# EAGLE library part TIYN2313 (library avrs)
MICROCONTROLLER 2 Kbytes FLASH 128 bytes SRAM 128 bytes EEPROM UART
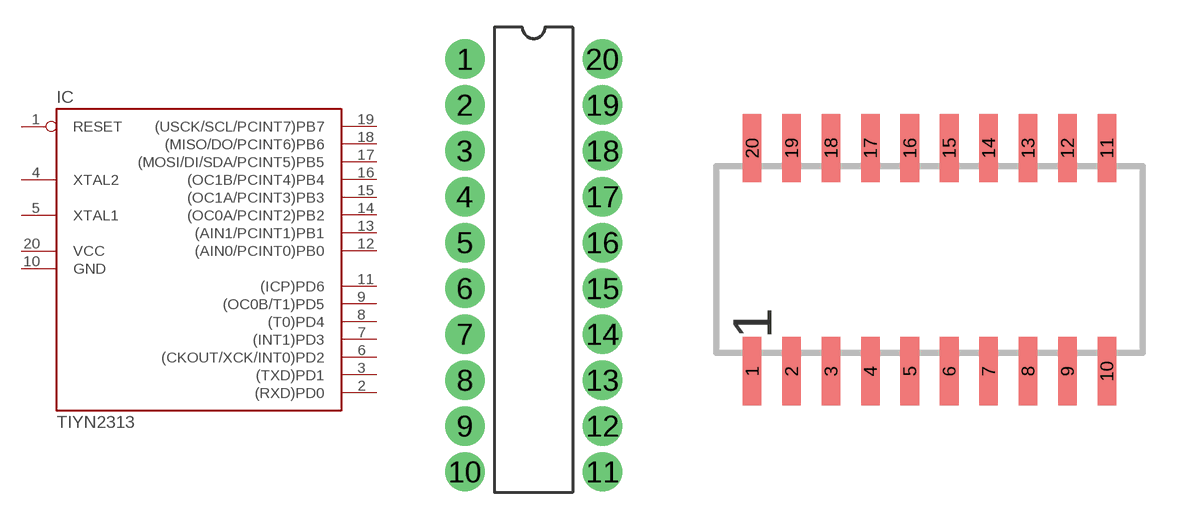
[diagram p0: symbol with the pads of DIL20; footprints DIL20, SOP20]

Designator prefix IC

## TIYN2313  [DIL20]
1  RESET
2  (RXD)PD0
3  (TXD)PD1
4  XTAL2
5  XTAL1
6  (CKOUT/XCK/INT0)PD2
7  (INT1)PD3
8  (T0)PD4
9  (OC0B/T1)PD5
10  GND  pwr
11  (ICP)PD6
12  (AIN0/PCINT0)PB0
13  (AIN1/PCINT1)PB1
14  (OC0A/PCINT2)PB2
15  (OC1A/PCINT3)PB3
16  (OC1B/PCINT4)PB4
17  (MOSI/DI/SDA/PCINT5)PB5
18  (MISO/DO/PCINT6)PB6
19  (USCK/SCL/PCINT7)PB7
20  VCC  pwr

## TIYN2313SOP20  [SOP20]
Pads as for DIL20

## Footprint DIL20 (pad centres in mm)
Dual In Line
drill 1 pad 2.184: 1 -3.81,12.7; 2 -3.81,10.16; 3 -3.81,7.62; 4 -3.81,5.08; 5 -3.81,2.54; 6 -3.81,0; 7 -3.81,-2.54; 8 -3.81,-5.08; 9 -3.81,-7.62; 10 -3.81,-10.16; 11 3.81,-10.16; 12 3.81,-7.62; 13 3.81,-5.08; 14 3.81,-2.54; 15 3.81,0; 16 3.81,2.54; 17 3.81,5.08; 18 3.81,7.62; 19 3.81,10.16; 20 3.81,12.7

## Footprint SOP20 (pad centres in mm)
smd 0.6 x 2.2: 1 -5.715,-3.6; 2 -4.445,-3.6; 3 -3.175,-3.6; 4 -1.905,-3.6; 5 -0.635,-3.6; 6 0.635,-3.6; 7 1.905,-3.6; 8 3.175,-3.6; 9 4.445,-3.6; 10 5.715,-3.6; 11 5.715,3.6; 12 4.445,3.6; 13 3.175,3.6; 14 1.905,3.6; 15 0.635,3.6; 16 -0.635,3.6; 17 -1.905,3.6; 18 -3.175,3.6; 19 -4.445,3.6; 20 -5.715,3.6